# Altium footprint library LASER_LIB_PCB.PcbLib: 46 footprints (part 1 of 3)
Each footprint in its own frame and in the unit in brackets; x right, y up, seen from the top. Pads: shape width x height; smd on the part's side, far side on the other; paste and mask are expansions set on the pad; w line width, h text height; cw(c..) or ccw(c..) is an arc to the next point about the centre after c.
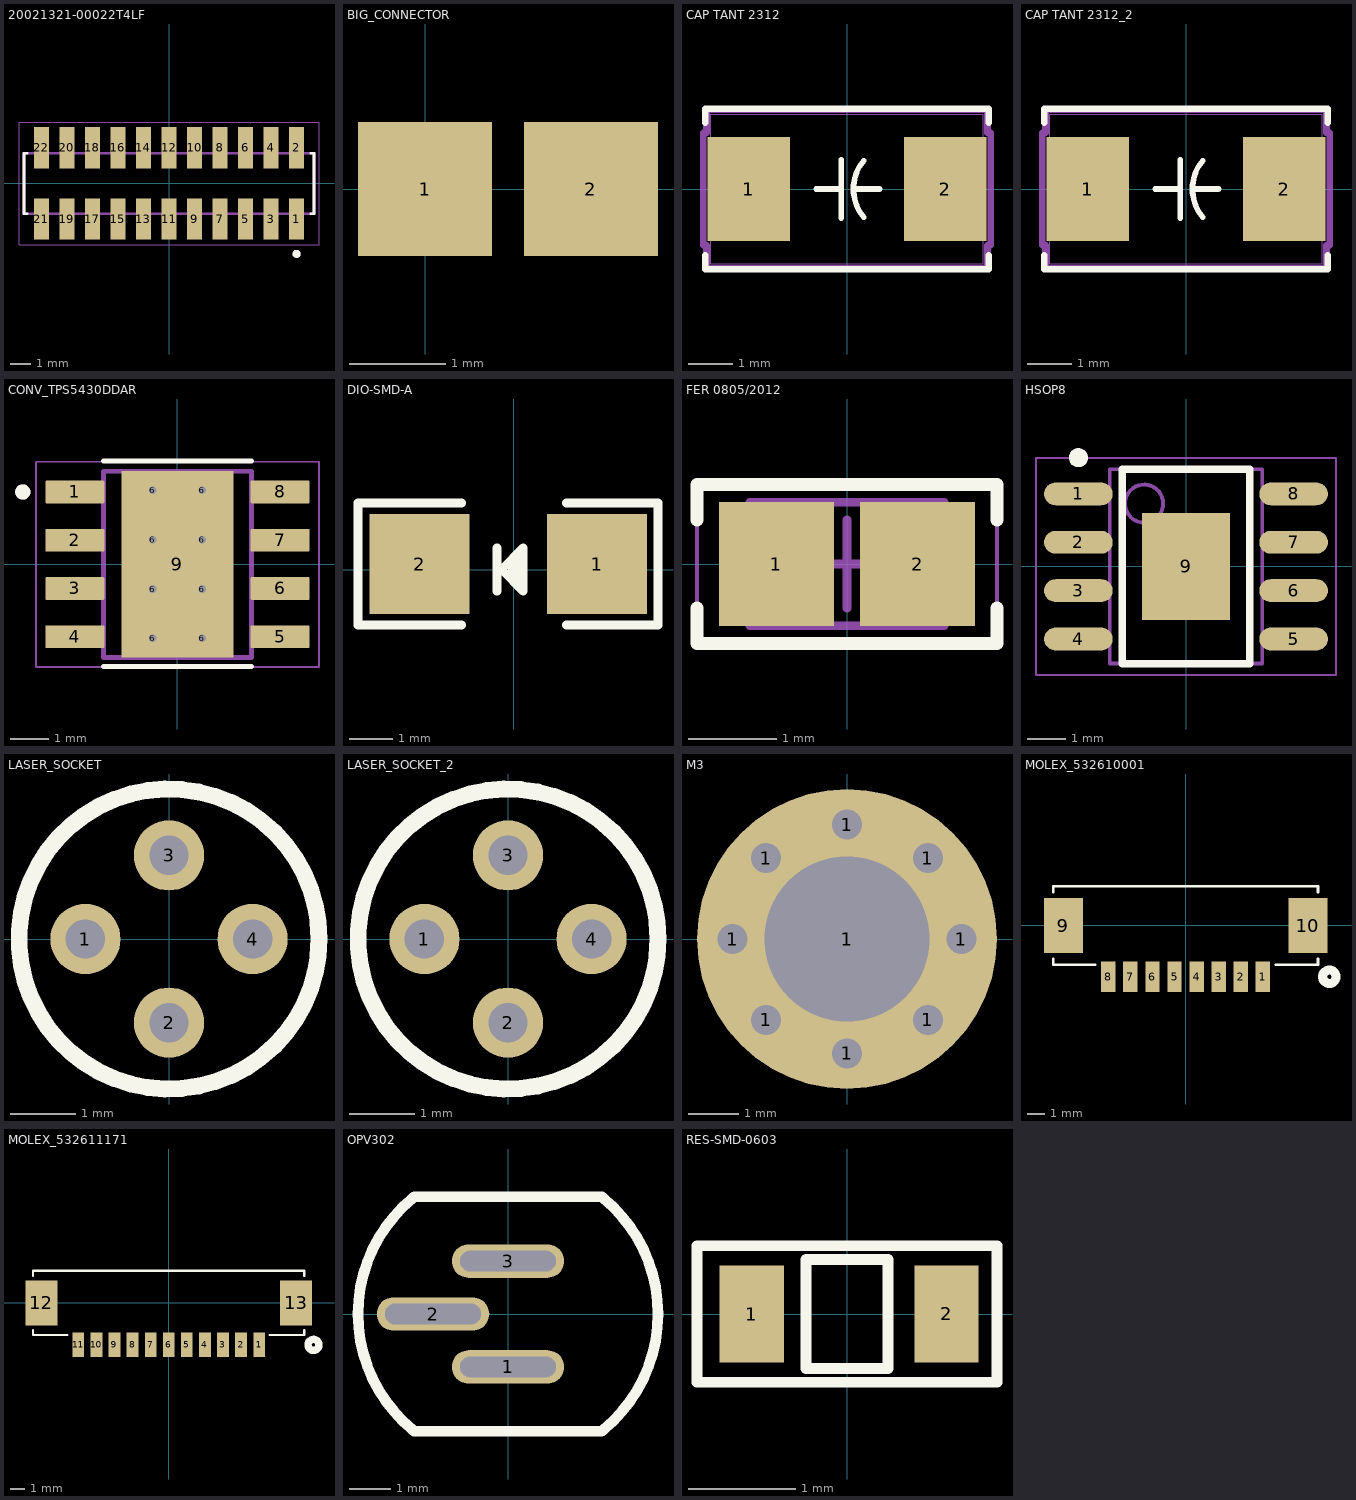
[diagram p0: the footprints below, top view; thin cyan lines are the x and y axes]

## 20021321-00022T4LF [mm]
height 4.65
pads (22):
  rect 0.76x2.05 smd: 1(6.35,-1.775) 2(6.35,1.775) 3(5.08,-1.775) 4(5.08,1.775) 5(3.81,-1.775) 6(3.81,1.775) 7(2.54,-1.775) 8(2.54,1.775) 9(1.27,-1.775) 10(1.27,1.775) 11(0,-1.775) 12(0,1.775) 13(-1.27,-1.775) 14(-1.27,1.775) 15(-2.54,-1.775) 16(-2.54,1.775) 17(-3.81,-1.775) 18(-3.81,1.775) 19(-5.08,-1.775) 20(-5.08,1.775) 21(-6.35,-1.775) 22(-6.35,1.775)
Top Overlay:
  circle w0.2: c6.35,-3.5 r0.1
  lines w0.127: -7.05,-1.5 -7.215,-1.5 -7.215,1.5 -7.05,1.5 ; 7.05,-1.5 7.215,-1.5 7.215,1.5 7.05,1.5
Top 3D Body:
  circle w0.2: c6.35,-3.5 r0.1
  lines w0.127: -7.215,-1.5 7.215,-1.5 7.215,1.5 -7.215,1.5 -7.215,-1.5
Top Courtyard:
  lines w0.05: -7.465,-3.05 7.465,-3.05 7.465,3.05 -7.465,3.05 -7.465,-3.05
3D body "20021321-00022T4LF.STEP": height 4.65, standoff 0, extent -7.215,-2.25 7.215,2.25

## BIG_CONNECTOR [mm]
pads (2):
  rect 1.4x1.4 smd: 1(0,0) 2(1.73,0)
Top Solder:
  region: 0.7,0.7 1.03,0.7 1.03,-0.7 0.7,-0.7

## CAP TANT 2312 [mil]
pads (2):
  rect 74x93 smd paste+0: 1(-88,0) 2(88,0)
Top Overlay:
  lines w5: -27.56,0 -5,0 ; -5,-25.98 -5,26.38 ; 6.97,0 29.13,0 ; 14.92,-25.19 cw(c45.08,0.12) 14.92,25.43
  lines w6: -127,-59.45 -127,-72 127,-72 127,-59.45 ; -127,59.45 -127,72 127,72 127,59.45
Top 3D Body:
  lines w1: -122,-67 -122,67 122,67 122,-67 -122,-67
Top Courtyard:
  lines w6: -129,-50.5 -126,-50.5 -126,-71 126,-71 126,-50.5 129,-50.5 129,50.5 126,50.5 126,71 -126,71 -126,50.5 -129,50.5 -129,-50.5
3D body "TAJC107K016RNJ.step": height 110.24, standoff 0, extent -118.11,-62.99 118.11,62.99

## CAP TANT 2312_2 [mil]
pads (2):
  rect 74x93 smd paste+0 mask+0: 1(-88,0) 2(88,0)
Top Overlay:
  lines w5: -27.56,0 -5,0 ; -5,-25.98 -5,26.38 ; 6.97,0 29.13,0 ; 14.92,-25.19 cw(c45.08,0.12) 14.92,25.43
  lines w6: -127,-59.45 -127,-72 127,-72 127,-59.45 ; -127,59.45 -127,72 127,72 127,59.45
Top 3D Body:
  lines w1: -122,-67 122,-67 122,67 -122,67 -122,-67
Top Courtyard:
  lines w6: -129,-50.5 -129,50.5 -126,50.5 -126,71 126,71 126,50.5 129,50.5 129,-50.5 126,-50.5 126,-71 -126,-71 -126,-50.5 -129,-50.5
3D body "TAJC107K016RNJ.step": height 110.24, standoff 0, extent -118.11,-62.99 118.11,62.99

## CONV_TPS5430DDAR [mm] "IC REG BUCK ADJ 3A 8SOPWR"
pads (17):
  rrect10% 1.55x0.6 smd: 1(-2.7,1.905) 2(-2.7,0.635) 3(-2.7,-0.635) 4(-2.7,-1.905) 5(2.7,-1.905) 6(2.7,-0.635) 7(2.7,0.635) 8(2.7,1.905)
  round 0.3 hole 0.2 mask+0: 6(-0.65,-1.95) 6(-0.65,-0.65) 6(-0.65,0.65) 6(-0.65,1.95) 6(0.65,-1.95) 6(0.65,-0.65) 6(0.65,0.65) 6(0.65,1.95)
  rect 2.95x4.9 smd paste+0: 9(0,0)
Top Overlay:
  circle w0.2: c-4.07,1.905 r0.1
  lines w0.127: -1.944,-2.692 1.956,-2.692 ; -1.944,2.718 1.956,2.718
Top Paste:
  region: 1.3,-1.55 -1.3,-1.55 -1.3,1.55 1.3,1.55
Top Solder:
  drawing of 9 lines, arcs and shapes, not listed
Top 3D Body:
  circle w0.2: c-4.07,1.905 r0.1
  lines w0.127: -1.95,-2.45 1.95,-2.45 1.95,2.45 -1.95,2.45 -1.95,-2.45
Top Courtyard:
  lines w0.05: -3.725,-2.7 3.725,-2.7 3.725,2.7 -3.725,2.7 -3.725,-2.7
3D body "step_temp.STEP": height 1.7, standoff 0, extent -3,-2.45 3,2.45

## DIO-SMD-A [mil]
pads (2):
  rect 90x90.55 smd: 1(75,5) 2(-85,5)
Top Overlay:
  lines w7.87: -47.24,-50 -140.55,-50 -140.55,60 -47.24,60 ; -15.12,-19.68 -15.12,19.68 ; -1.34,-5.91 -1.34,5.91 ; 4.57,-11.81 4.57,11.81 ; 47.24,-50 130,-50 130,60 47.24,60 ; -11.18,0 8.5,-19.68 8.5,19.68 -11.18,0
Mechanical 1:
  lines w3.94: -7.87,5 7.87,5 ; 0,-2.87 0,12.87
3D body "User Library-DO-214Aa SMA.step": height 94.59, standoff 0, extent -103.7,-45.27 101.03,57.09

## FER 0805/2012 [mm]
pads (2):
  rect 1.3x1.4 smd mask+0.05: 1(-0.8,0) 2(0.8,0)
Top Overlay:
  lines w0.15: -1.7,-0.5 -1.7,-0.9 1.7,-0.9 1.7,-0.5 ; -1.7,0.5 -1.7,0.9 1.7,0.9 1.7,0.5
Top 3D Body:
  lines w0.1: -1.1,-0.7 1.1,-0.7 1.1,0.7 -1.1,0.7 -1.1,-0.7
Top Courtyard:
  lines w0.05: -1.7,-0.95 1.7,-0.95 1.7,0.95 -1.7,0.95 -1.7,-0.95
  lines w0.1: -0.5,0 0.5,0 ; 0,-0.5 0,0.5
3D body "FER 0805.STEP": height 1.26, standoff -0.02, extent -1,-0.637 1,0.637

## HSOP8 [mm]
pads (9):
  oval 1.8x0.6 smd: 1(-2.825,1.905) 2(-2.825,0.635) 3(-2.825,-0.635) 4(-2.825,-1.905) 5(2.825,-1.905) 6(2.825,-0.635) 7(2.825,0.635) 8(2.825,1.905)
  rect 2.3x2.8 smd: 9(0,0)
Top Overlay:
  circle w0.25: c-2.825,2.855 r0.125
  lines w0.2: -1.675,-2.55 1.675,-2.55 1.675,2.55 -1.675,2.55 -1.675,-2.55
Top 3D Body:
  circle w0.1: c-1.1,1.65 r0.5
  lines w0.1: -2,-2.55 2,-2.55 2,2.55 -2,2.55 -2,-2.55
Top Courtyard:
  lines w0.05: -3.937,-2.85 3.937,-2.85 3.937,2.85 -3.937,2.85 -3.937,-2.85
  lines w0.1: -0.5,0 0.5,0 ; 0,-0.5 0,0.5
3D body "CircuitWorks-SO-8 (PIC12FXXX).step": height 1.6, standoff 0, extent -2.995,-2.45 2.995,2.45

## LASER_SOCKET [mil]
pads (4):
  round 42 hole 23.62: 1(-50,0) 2(0,-50) 3(0,50) 4(50,0)
Top Overlay:
  circle w10: c0,0 r89.77
3D body "mill-max-0461-2-15-01-21-XX-04-0.step": height 300, standoff -55, extent -68.86,-19 -31.14,19
3D body "mill-max-0461-2-15-01-21-XX-04-0.step": height 300, standoff -55, extent -18.86,31 18.86,69
3D body "mill-max-0461-2-15-01-21-XX-04-0.step": height 300, standoff -55, extent 31.14,-19 68.86,19
3D body "mill-max-0461-2-15-01-21-XX-04-0.step": height 300, standoff -55, extent -18.86,-69 18.86,-31

## LASER_SOCKET_2 [mil]
pads (4):
  round 42 hole 23.62: 1(-50,0) 2(0,-50) 3(0,50) 4(50,0)
Top Overlay:
  circle w10: c0,0 r89.77
3D body "mill-max-0461-2-15-01-21-XX-04-0.step": height 300, standoff -55, extent -68.86,-19 -31.14,19
3D body "mill-max-0461-2-15-01-21-XX-04-0.step": height 300, standoff -55, extent -18.86,31 18.86,69
3D body "mill-max-0461-2-15-01-21-XX-04-0.step": height 300, standoff -55, extent 31.14,-19 68.86,19
3D body "mill-max-0461-2-15-01-21-XX-04-0.step": height 300, standoff -55, extent -18.86,-69 18.86,-31

## M3 [mm]
pads (9):
  round 1.2 hole 0.6: 1(-2.286,0) 1(-1.616,-1.616) 1(-1.616,1.616) 1(0,-2.286) 1(0,2.286) 1(1.616,-1.616) 1(1.616,1.616) 1(2.286,0)
  round 6 hole 3.3: 1(0,0)

## MOLEX_532610001 [mil]
pads (10):
  rect 32x67 smd: 1(172.24,-114.35) 2(123.03,-114.35) 3(73.82,-114.35) 4(24.61,-114.35) 5(-24.61,-114.35) 6(-73.82,-114.35) 7(-123.03,-114.35) 8(-172.24,-114.35)
  rect 87x122 smd: 9(-272.64,-0.18) 10(272.64,-0.18)
Top Overlay:
  circle w20: c320.5,-114.35 r15
  lines w6: -295.5,-74.28 -295.5,-87.5 -201.34,-87.5 ; -295.5,73.92 -295.5,87.5 295.5,87.5 295.5,73.92 ; 201.34,-87.5 295.5,-87.5 295.5,-74.28
3D body "0532610871.stp": height 132.98, standoff -0.87, extent -298.23,-124.09 298.23,80.63

## MOLEX_532611171 [mil]
pads (13):
  rect 32x67 smd: 1(246.06,-114.35) 2(196.85,-114.35) 3(147.64,-114.35) 4(98.43,-114.35) 5(49.21,-114.35) 6(0,-114.35) 7(-49.21,-114.35) 8(-98.43,-114.35) 9(-147.64,-114.35) 10(-196.85,-114.35) 11(-246.06,-114.35)
  rect 87x122 smd: 12(-346.46,-0.18) 13(346.46,-0.18)
Top Overlay:
  circle w20: c394,-114.35 r15
  lines w6: -369,-74.28 -369,-87.5 -275.16,-87.5 ; -369,73.92 -369,87.5 369,87.5 369,73.92 ; 275.16,-87.5 369,-87.5 369,-74.28
3D body "0532611171.stp": height 132.98, standoff -0.87, extent -372.05,-124.09 372.05,80.63

## OPV302 [mm]
pads (3):
  oval 2.7x0.8 hole 0.5 slot 2.3 at 0 deg mask+0.102: 1(0,-1.27) 2(-1.8,0) 3(0,1.27)
Top Overlay:
  lines w0.254: -2.28,-2.786 cw(c0,0) -2.28,2.786 ; -2.249,-2.809 2.244,-2.809 ; -2.244,2.809 2.249,2.809 ; 2.28,-2.786 ccw(c0,0) 2.28,2.786
3D body "OPV302.stp": height 10.42, standoff -9, extent -6.868,-2.776 9.063,2.776

## PCBComponent_1 [mm]

## RES-SMD-0603 [mm]
pads (2):
  rect 0.6x0.9 smd: 1(-0.889,0) 2(0.927,0)
Top Overlay:
  lines w0.1: -1.397,-0.635 0.889,-0.635 1.397,-0.635 1.397,0.635 -1.397,0.635 -1.397,-0.635 ; -0.381,-0.508 0.381,-0.508 0.381,0.508 -0.381,0.508 -0.381,-0.508
3D body "User Library-SMD RESISTOR-1 (3).step": height 0.43, standoff -0.03, extent -0.8,-0.4 0.8,0.4